# Altium footprint library Fuses.PcbLib: 7 footprints
Each footprint in its own frame and in the unit in brackets; x right, y up, seen from the top. Pads: shape width x height; smd on the part's side, far side on the other; paste and mask are expansions set on the pad; w line width, h text height; cw(c..) or ccw(c..) is an arc to the next point about the centre after c.
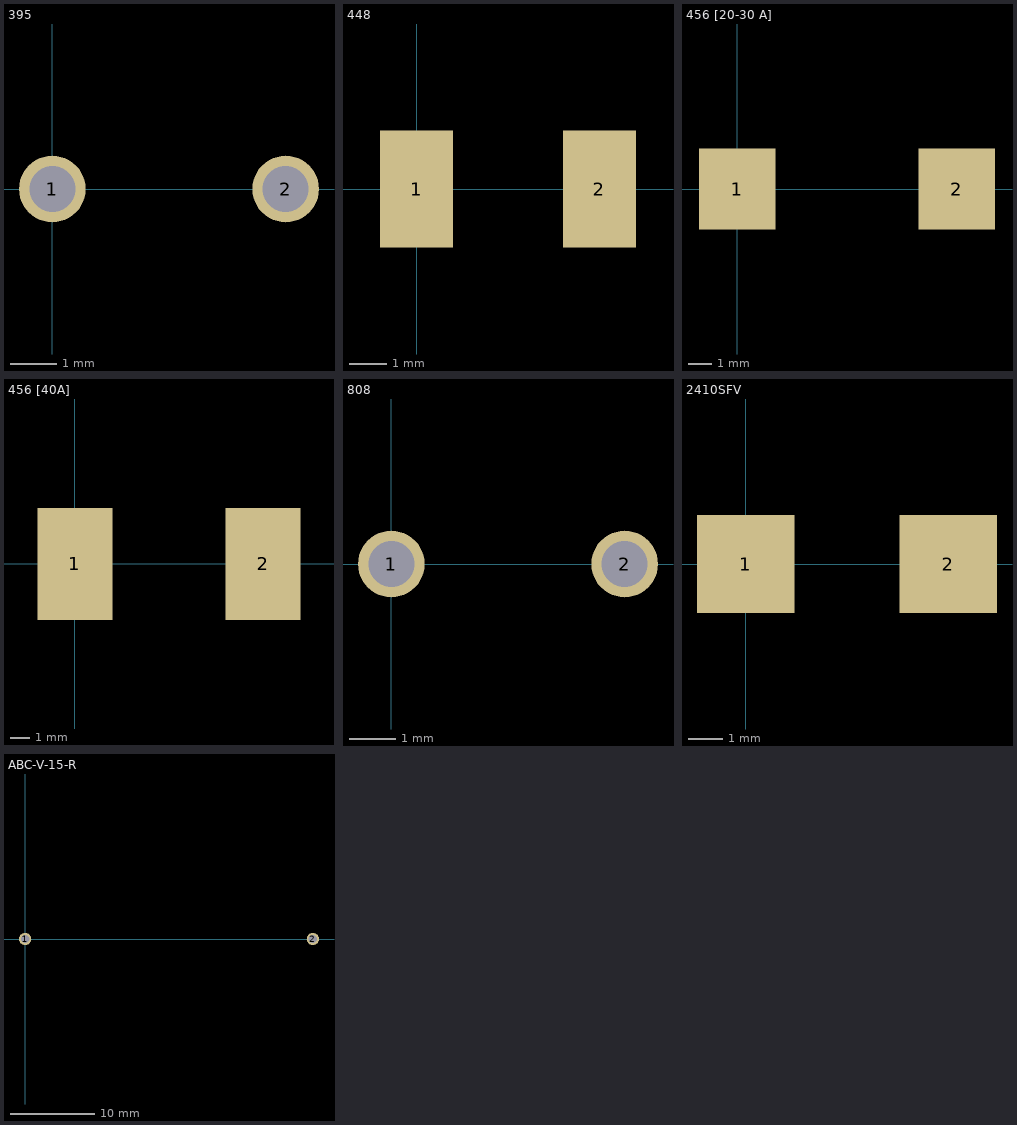
[diagram p0: the footprints below, top view; thin cyan lines are the x and y axes]

## 395 [mm] "LittleFuse 395 Series"
pads (2):
  round 1.45 hole 1: 1(0,0) 2(5.08,0)

## 448 [mm] "LittleFuse 448 Series"
pads (2):
  rect 1.96x3.15 smd: 1(0,0) 2(4.9,0)

## 456 [20-30 A] [mm] "LittleFuse 456 Series"
pads (2):
  rect 3.25x3.43 smd: 1(0,0) 2(9.35,0)

## 456 [40A] [mm] "LittleFuse 456 Series"
pads (2):
  rect 3.79x5.65 smd: 1(0,0) 2(9.51,0)

## 808 [mm] "LittleFuse 808 Series"
pads (2):
  round 1.45 hole 1: 1(0,0) 2(5.08,0)

## 2410SFV [mm] "LittleFuse 2410SFV Series"
pads (2):
  rect 2.8x2.8 smd: 1(0,0) 2(5.8,0)

## ABC-V-15-R [mm] "Bussmann / Eaton ABC-15 Fuse"
pads (2):
  round 1.45 hole 1: 1(0,0) 2(34,0)